# EAGLE library part PPTC061LFBN-RC (library SD_LIB)
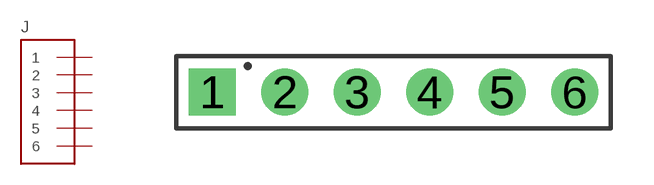
[diagram p0: symbol with the pads of HDR-6-F; footprint HDR-6-F]

Designator prefix J

## PPTC061LFBN-RC  [HDR-6-F]
1  1
2  2
3  3
4  4
5  5
6  6

## Footprint HDR-6-F (pad centres in mm)
drill 1.1 square: 1 1.27,1.27
drill 1.1: 2 3.81,1.27; 3 6.35,1.27; 4 8.89,1.27; 5 11.43,1.27; 6 13.97,1.27